# EAGLE library part AD5696RARUZ-RL7 (library AD5696)
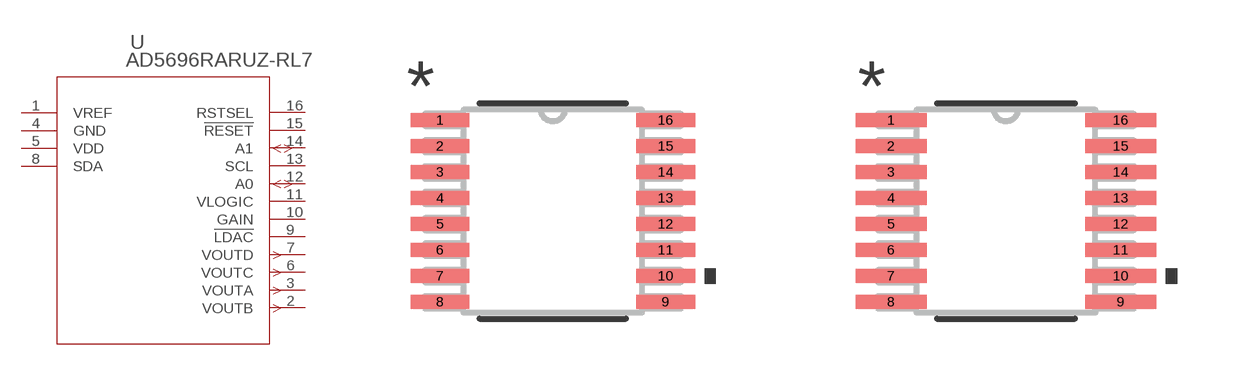
[diagram p1: symbol with the pads of RU_16_ADI; footprints RU_16_ADI, RU_16_ADI-M]

Designator prefix U

## AD5696RARUZ-RL7 (COPYRIGHT: Copyright (C) 2024 Ultra Librarian. All rights reserved.; MANUFACTURER_PART_NUMBER: AD5696RARUZ-RL7; MFR_NAME: Analog Devices Inc)  [RU_16_ADI]
1  VREF  pwr
2  VOUTB  out
3  VOUTA  out
4  GND  pas
5  VDD  pwr
6  VOUTC  out
7  VOUTD  out
8  SDA  pas
9  !LDAC  pas
10  GAIN  pas
11  VLOGIC  pwr
12  A0
13  SCL  pas
14  A1
15  !RESET  pas
16  RSTSEL  pas

## AD5696RARUZ-RL7RU_16_ADI-M (COPYRIGHT: Copyright (C) 2024 Ultra Librarian. All rights reserved.; MANUFACTURER_PART_NUMBER: AD5696RARUZ-RL7; MFR_NAME: Analog Devices Inc)  [RU_16_ADI-M]
Pads as for RU_16_ADI

## AD5696RARUZ-RL7RU_16_ADI-L (COPYRIGHT: Copyright (C) 2024 Ultra Librarian. All rights reserved.; MANUFACTURER_PART_NUMBER: AD5696RARUZ-RL7; MFR_NAME: Analog Devices Inc)  [RU_16_ADI-L]
Pads as for RU_16_ADI

## Footprint RU_16_ADI (pad centres in mm)
smd 1.473 x 0.356: 1 -2.819,2.275; 2 -2.819,1.625; 3 -2.819,0.975; 4 -2.819,0.325; 5 -2.819,-0.325; 6 -2.819,-0.975; 7 -2.819,-1.625; 8 -2.819,-2.275; 9 2.819,-2.275; 10 2.819,-1.625; 11 2.819,-0.975; 12 2.819,-0.325; 13 2.819,0.325; 14 2.819,0.975; 15 2.819,1.625; 16 2.819,2.275

## Footprint RU_16_ADI-M (pad centres in mm)
smd 1.778 x 0.356: 1 -2.87,2.275; 2 -2.87,1.625; 3 -2.87,0.975; 4 -2.87,0.325; 5 -2.87,-0.325; 6 -2.87,-0.975; 7 -2.87,-1.625; 8 -2.87,-2.275; 9 2.87,-2.275; 10 2.87,-1.625; 11 2.87,-0.975; 12 2.87,-0.325; 13 2.87,0.325; 14 2.87,0.975; 15 2.87,1.625; 16 2.87,2.275

## Footprint RU_16_ADI-L (pad centres in mm)
smd 1.168 x 0.305: 1 -2.769,2.275; 2 -2.769,1.625; 3 -2.769,0.975; 4 -2.769,0.325; 5 -2.769,-0.325; 6 -2.769,-0.975; 7 -2.769,-1.625; 8 -2.769,-2.275; 9 2.769,-2.275; 10 2.769,-1.625; 11 2.769,-0.975; 12 2.769,-0.325; 13 2.769,0.325; 14 2.769,0.975; 15 2.769,1.625; 16 2.769,2.275